# EAGLE library part SN74AUP1T97 (library buffer)
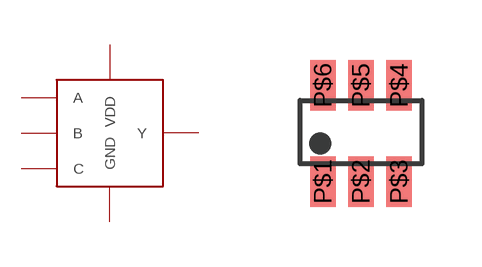
[diagram p0: symbol with the pads of SOT23-6; footprint SOT23-6]

Designator prefix -

## SN74AUP1T97  [SOT23-6]
P$1  B  in
P$2  GND  pwr
P$3  A  in
P$4  Y  out
P$5  VDD  pwr
P$6  C  in

## Footprint SOT23-6 (pad centres in mm)
smd 0.635 x 1.27: P$1 -0.953,-1.206; P$2 0,-1.206; P$3 0.953,-1.206; P$4 0.953,1.206; P$5 0,1.206; P$6 -0.953,1.206